# Altium footprint library 我的PCB.PcbLib: 347 footprints (part 3 of 22)
Each footprint in its own frame and in the unit in brackets; x right, y up, seen from the top. Pads: shape width x height; smd on the part's side, far side on the other; paste and mask are expansions set on the pad; w line width, h text height; cw(c..) or ccw(c..) is an arc to the next point about the centre after c.
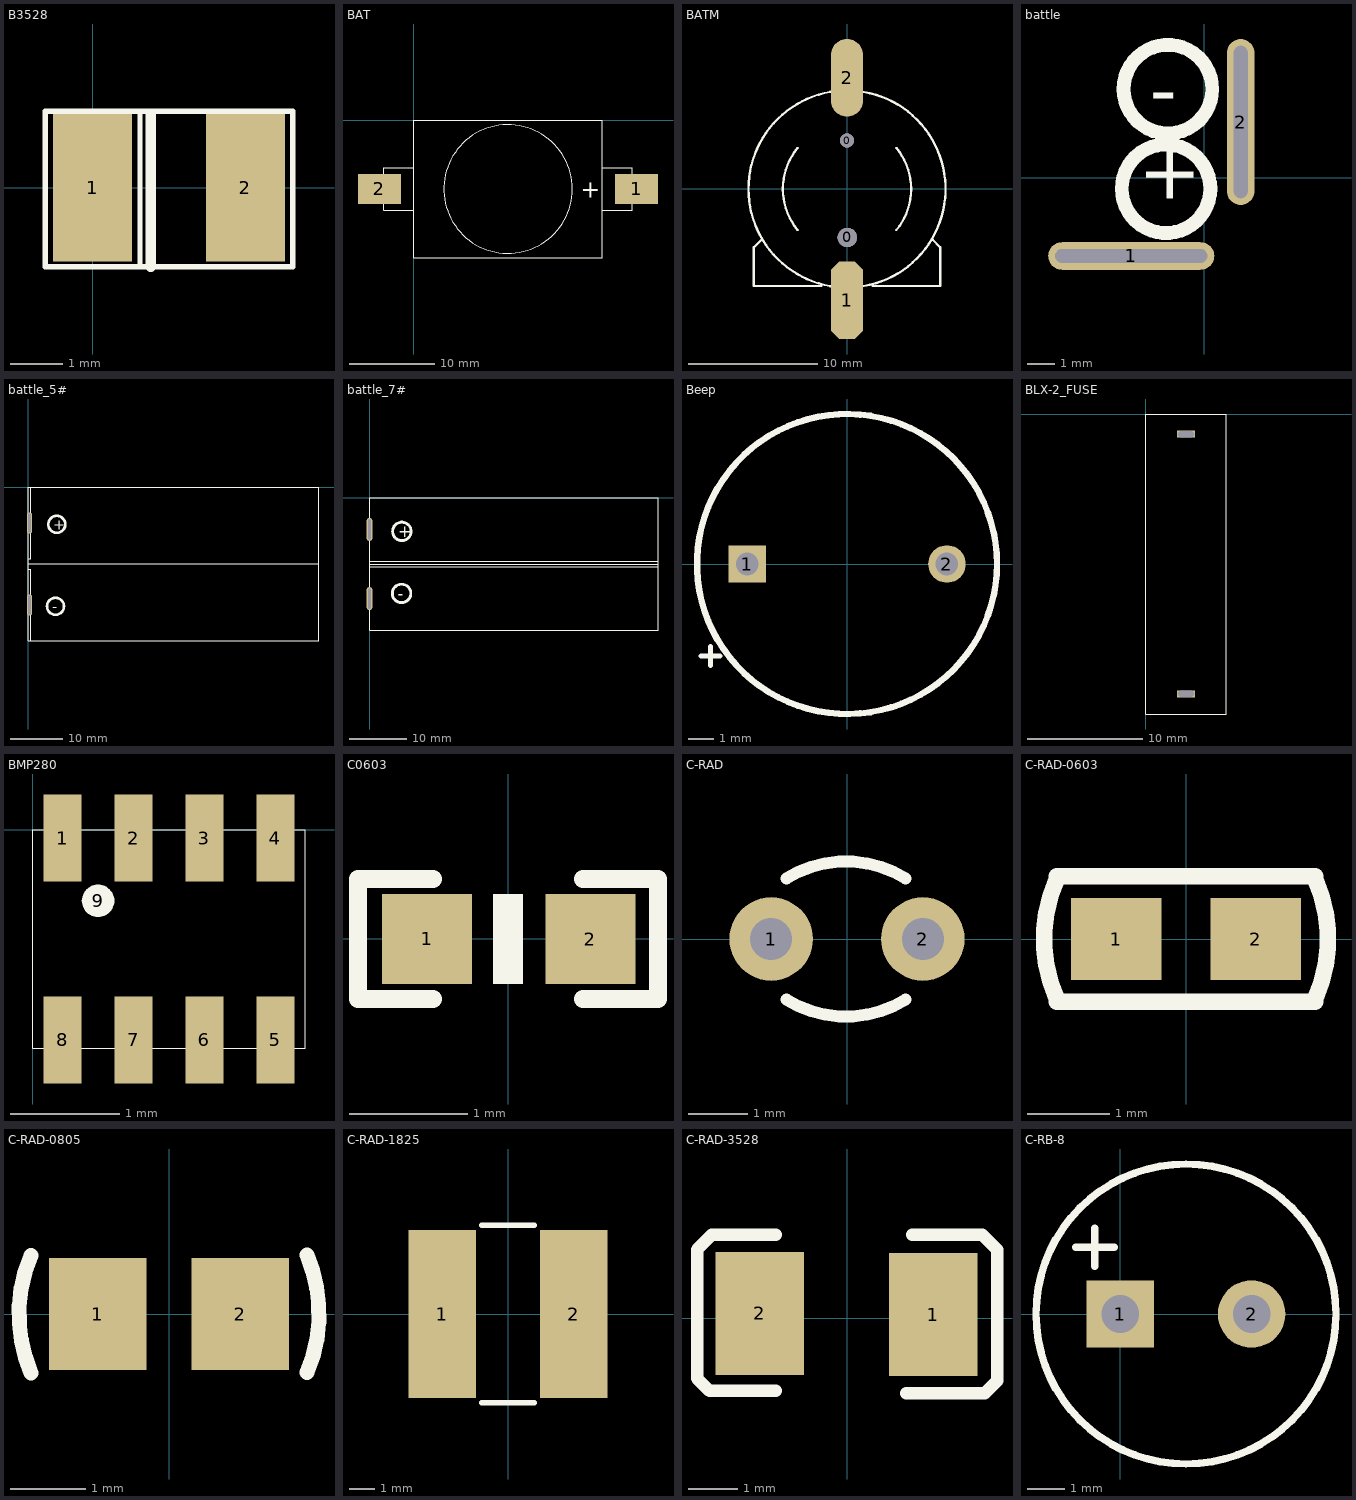
[diagram p2: the footprints below, top view; thin cyan lines are the x and y axes]

## B3528 [mm]
pads (2):
  rect 1.5x2.8 smd: 1(0,0) 2(2.9,0)
Top Overlay:
  lines w0.1: 0.9,1.3 0.9,-1.5 0.9,1.4 ; -0.9,-1.5 3.8,-1.5 3.8,1.45 -0.9,1.45 -0.9,-1.5
  lines w0.2: 1.1,-1.5 1.1,1.4

## BAT [mm]
pads (2):
  rect 5x3.5 smd: 1(26,-8) 2(-4,-8)
Top Overlay:
  circle w0.1: c11,-8 r7.5
  lines w0.1: 0,-10.5 -3.5,-10.5 -3.5,-5.5 0,-5.5 ; 22,-10.5 25.5,-10.5 25.5,-5.5 22,-5.5 ; 0,-16 0,0 22,0 22,-16 0,-16
  text "+" at 19.5,-9 h2

## BATM [mm]
pads (4):
  round 1.1 hole 1.1 unplated: 0(0,3.748)
  round 1.5 hole 1.5 unplated: 0(0.025,-3.752)
  oct 2.5x6 smd: 1(0,-8.602)
  oval 2.5x6 smd: 2(0,8.598)
Top Overlay:
  lines w0.178: -6.6,-3.902 -7.2,-4.502 -7.2,-7.502 -2,-7.502 ; -3.815,-3.171 cw(c0,-0.002) -3.812,3.171 ; -0.833,-7.576 cw(c0,-0.002) -7.62,-0.002 cw(c0,-0.002) -0.833,7.573 ; 0.833,-7.576 ccw(c0,-0.002) 0.833,7.573 ; 2,-7.502 7.2,-7.502 7.2,-4.502 6.625,-3.927 ; 3.81,-3.177 ccw(c0,-0.002) 3.812,3.171

## battle [mm]
pads (2):
  oval 6x1 hole 0.5 slot 5.5 at 0 deg: 1(-2.641,-2.83)
  oval 1x6 hole 0.5 slot 5.5 at 90 deg: 2(1.314,2.01)
Top Overlay:
  circle w0.5: c-1.384,-0.401 r1.601
  circle w0.5: c-1.317,3.2 r1.601
  text "+" at -0.384,-1.05 h2
  text "-" at -1.966,2.2 h2

## battle_5# [mm]
pads (2):
  oval 1x4 hole 0.5 slot 3.5 at 90 deg: 1(0.25,-6.75) 2(0.25,-22.25)
Top Overlay:
  circle w0.5: c5.399,-7 r1.601
  circle w0.5: c5.149,-22.5 r1.601
  lines w0.1: 0,-15.5 0.5,-15.5 0.5,-29 ; 0,-14.5 55,-14.5 ; 0,-13.5 0.5,-13.5 0.5,0 0,0 ; 0,0 0,-29 0.5,-29 ; 0,0 55,0 55,-29 0.5,-29
  text "+" at 4.75,-8 h2
  text "-" at 4.5,-23.5 h2

## battle_7# [mm]
pads (2):
  oval 1x4 hole 0.5 slot 3.5 at 90 deg: 1(0,-5.5) 2(0,-17.5)
Top Overlay:
  circle w0.5: c5.599,-5.85 r1.601
  circle w0.5: c5.549,-16.6 r1.601
  lines w0.1: 0,-12 50,-12 ; 0,-11.5 0.5,-11.5 ; 0,-11 50,-11 ; 0,-1 0,0
  lines w0.2: 0,-11.5 50,-11.5 ; 0,-1 0,-23 50,-23 50,0 0,0
  text "+" at 4.95,-6.85 h2
  text "-" at 4.9,-17.6 h2

## Beep [mm] "蜂鸣器"
height 6
pads (2):
  rect 1.5x1.5 hole 0.9: 1(-4,0)
  round 1.5 hole 0.9: 2(4,0)
Top Overlay:
  circle w0.254: c0,0 r6
  lines w0.2: -5.842,-3.683 -5.08,-3.683 ; -5.461,-4.064 -5.461,-3.302

## BLX-2_FUSE [mm]
pads (2):
  rect 1.6x0.6 hole 0.5 slot 1.4 at 0 deg unplated: 1(3.5,-1.75) 2(3.5,-24.25)
Top Overlay:
  lines w0.1: 0,-26 7,-26 7,0 0,0 0,-26

## BMP280 [mm]
pads (9):
  rect 0.35x0.8 smd: 1(0.275,-0.075) 2(0.925,-0.075) 3(1.575,-0.075) 4(2.225,-0.075) 5(2.225,-1.925) 6(1.575,-1.925) 7(0.925,-1.925) 8(0.275,-1.925)
  round 0.3 on Top Overlay: 9(0.6,-0.65)
Top Overlay:
  lines w0.01: 0,-2 0,0 2.5,0 2.5,-2 0,-2

## C0603 [mil]
pads (2):
  rect 30x30 smd: 1(-27,0) 2(27.5,-0.06)
Top Overlay:
  region: 5,-15.06 5,14.94 -5,14.94 -5,-15.06
  lines w6: -25,-20.06 -50,-20.06 -50,19.94 -25,19.94 ; 25,-20.06 50,-20.06 50,19.94 25,19.94

## C-RAD [mm] "瓷片电容"
height 6
pads (2):
  round 1.4 hole 0.7: 1(-1.27,0) 2(1.27,0)
Top Overlay:
  lines w0.2: -1.016,-1.016 ccw(c-0.018,0.606) 0.981,-1.016 ; -1.016,1.016 cw(c-0.018,-0.606) 0.981,1.016

## C-RAD-0603 [mm] "贴片电容"
height 0.6
pads (2):
  rect 1.1x1 smd: 1(-0.85,0) 2(0.85,0)
Top Overlay:
  lines w0.2: -1.574,-0.762 1.574,-0.762 ; -1.574,-0.727 cw(c0.048,0) -1.574,0.727 ; -1.574,0.762 1.574,0.762 ; 1.574,-0.727 ccw(c-0.048,0) 1.574,0.727
3D body: height 1, standoff 0, extent -1.143,-0.381 1.143,0.381

## C-RAD-0805 [mm] "贴片电容"
height 1
pads (2):
  rect 1.3x1.5 smd: 1(-0.95,0) 2(0.95,0)
Top Overlay:
  lines w0.2: -1.842,0.779 ccw(c0,0) -1.838,-0.789 ; 1.838,0.789 cw(c0,0) 1.842,-0.779
3D body: height 0.8, standoff 0, extent -1.016,-0.635 1.016,0.635
3D body: height 0.9, standoff 0, extent -1.27,-0.635 -0.889,0.635
3D body: height 0.9, standoff 0, extent 0.889,-0.635 1.27,0.635

## C-RAD-1825 [mm] "贴片电阻"
pads (2):
  rect 2.6x6.5 smd: 1(-2.54,0) 2(2.54,0)
Top Overlay:
  lines w0.2: -1.016,-3.429 1.016,-3.429 ; -1.016,3.429 1.016,3.429
3D body: height 1.2, standoff 0, extent -2.286,-3.175 2.286,3.175

## C-RAD-3528 [mm] "贴片电容"
height 3
pads (2):
  rect 1.8x2.5 smd: 1(1.753,0.075) 2(-1.772,0.1)
Top Overlay:
  lines w0.254: -1.447,-1.475 -2.794,-1.475 -3.048,-1.221 -3.048,1.397 -2.745,1.7 -1.447,1.7 ; 1.203,-1.524 2.794,-1.524 3.048,-1.27 3.048,1.397 2.794,1.651 2.745,1.7 1.328,1.7

## C-RB-8 [mm] "35V 220UF电容"
height 12
pads (2):
  rect 1.8x1.8 hole 1: 1(0,0)
  round 1.8 hole 1: 2(3.5,0)
Top Overlay:
  circle w0.2: c1.75,0 r4
  lines w0.2: -1.185,1.778 -0.169,1.778 ; -0.677,1.27 -0.677,2.286